# EAGLE library part USB-B-SMT (library rezzonics)
USB-B-SMT USB connector with shield pins connectable
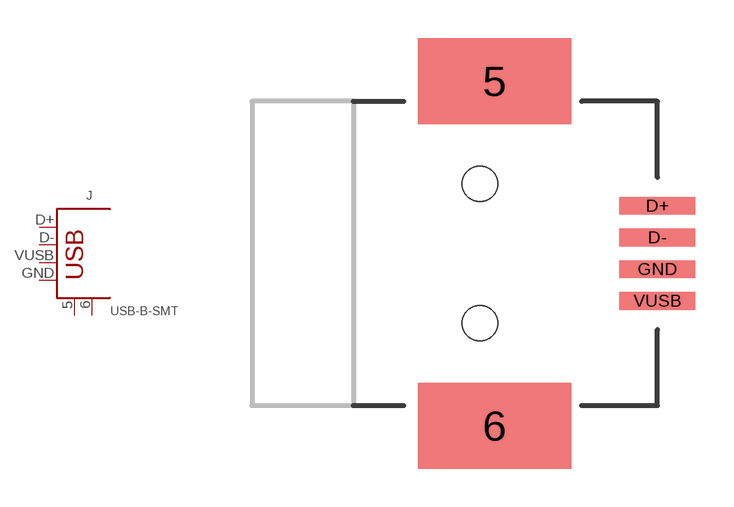
[diagram p15: symbol with the pads of USB-B-SMT; footprint USB-B-SMT]

Designator prefix J

## USB-B-SMT  [USB-B-SMT]
5  P$1
6  P$2
D+  D+
D-  D-
GND  GND
VUSB  VBUS

## Footprint USB-B-SMT (pad centres in mm)
USB Series B Surface Mounted
smd 6.04 x 3.4: 5 0.58,6.8; 6 0.58,-6.8
smd 3 x 0.7: D+ 7,1.875; D- 7,0.625; GND 7,-0.625; VUSB 7,-1.875
hole 1.4 at 0,2.75
hole 1.4 at 0,-2.75